# Altium schematic symbol library TC358748XBG.SchLib: 2 symbols
Pins are listed as number, name and electrical type; pins without a type are passive.

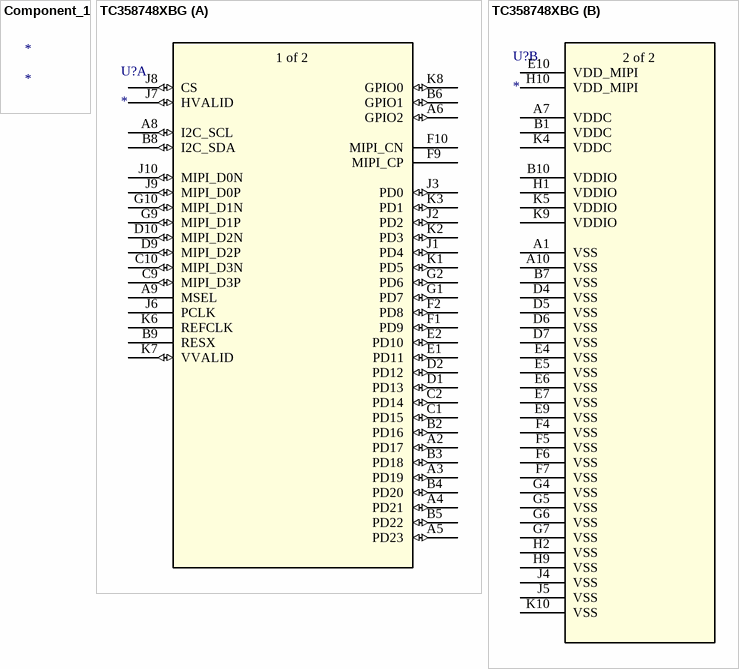
[diagram p0: symbols Component_1 to TC358748XBG]

## Component_1
designator *

## TC358748XBG
designator U?
No Description Available; Mfr_Name: Toshiba Electronic Devices & Storage Corp.; Type: Interface; RefDes: RefDes
footprint P-VFBGA80-0707-0.65-001_TOS
part A pins: A2 PD17 (io), A3 PD19 (io), A4 PD21 (io), A5 PD23 (io), A6 GPIO2 (io), A8 I2C_SCL (io), A9 MSEL, B2 PD16 (io), B3 PD18 (io), B4 PD20 (io), B5 PD22 (io), B6 GPIO1 (io), B8 I2C_SDA (io), B9 RESX, C1 PD15 (io), C2 PD14 (io), C9 MIPI_D3P (io), C10 MIPI_D3N (io), D1 PD13 (io), D2 PD12 (io), D9 MIPI_D2P (io), D10 MIPI_D2N (io), E1 PD11 (io), E2 PD10 (io), F1 PD9 (io), F2 PD8 (io), F9 MIPI_CP, F10 MIPI_CN, G1 PD7 (io), G2 PD6 (io), G9 MIPI_D1P (io), G10 MIPI_D1N (io), J1 PD4 (io), J2 PD2 (io), J3 PD0 (io), J6 PCLK, J7 HVALID (io), J8 CS (io), J9 MIPI_D0P (io), J10 MIPI_D0N (io), K1 PD5 (io), K2 PD3 (io), K3 PD1 (io), K6 REFCLK, K7 VVALID (io), K8 GPIO0 (io)
part B pins: A1 VSS (power), A7 VDDC (power), A10 VSS (power), B1 VDDC (power), B7 VSS (power), B10 VDDIO (power), D4 VSS (power), D5 VSS (power), D6 VSS (power), D7 VSS (power), E4 VSS (power), E5 VSS (power), E6 VSS (power), E7 VSS (power), E9 VSS (power), E10 VDD_MIPI (power), F4 VSS (power), F5 VSS (power), F6 VSS (power), F7 VSS (power), G4 VSS (power), G5 VSS (power), G6 VSS (power), G7 VSS (power), H1 VDDIO (power), H2 VSS (power), H9 VSS (power), H10 VDD_MIPI (power), J4 VSS (power), J5 VSS (power), K4 VDDC (power), K5 VDDIO (power), K9 VDDIO (power), K10 VSS (power)
part A text: 1 of 2
part B text: 2 of 2